# EAGLE library part ENC624J600-I/PT (library ELL-i-DigitalIC)
Stand-Alone 10/100 Ethernet Controller
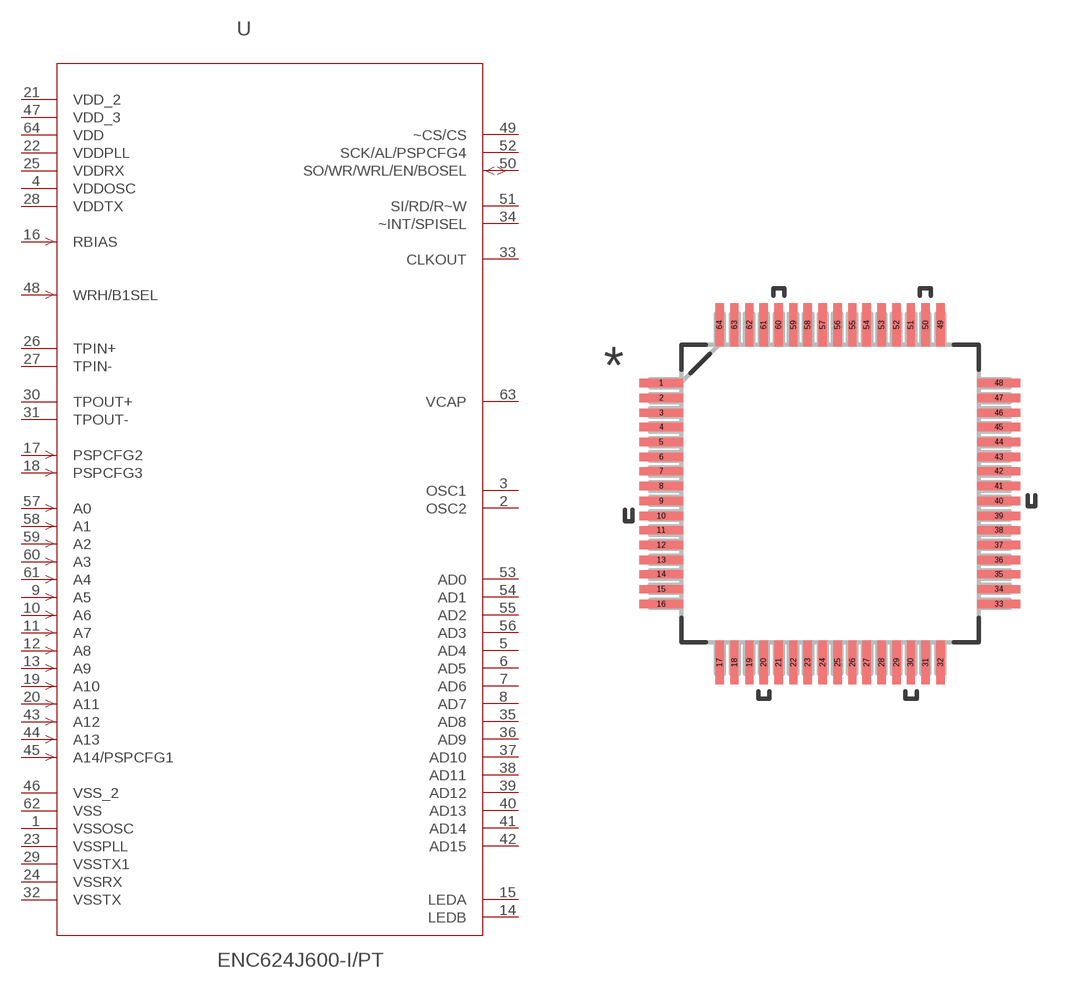
[diagram p9: symbol with the pads of QFP50P1200X1200X120-64N; footprint QFP50P1200X1200X120-64N]

Designator prefix U

## ENC624J600-I/PT (DESCRIPTION: Stand-Alone 10/100 Ethernet Controller; MPN: enc624j600-I/pt; OC_FARNELL: 1740227; OC_NEWARK: 07P9123; PACKAGE: TQFP-64; SUPPLIER: Microchip)  [QFP50P1200X1200X120-64N]
1  VSSOSC  pwr
2  OSC2  out
3  OSC1  in
4  VDDOSC  pwr
5  AD4
6  AD5
7  AD6
8  AD7
9  A5  in
10  A6  in
11  A7  in
12  A8  in
13  A9  in
14  LEDB  out
15  LEDA  out
16  RBIAS  in
17  PSPCFG2  in
18  PSPCFG3  in
19  A10  in
20  A11  in
21  VDD_2  pwr
22  VDDPLL  pwr
23  VSSPLL  pwr
24  VSSRX  pwr
25  VDDRX  pwr
26  TPIN+  in
27  TPIN-  in
28  VDDTX  pwr
29  VSSTX1  pwr
30  TPOUT+  out
31  TPOUT-  out
32  VSSTX  pwr
33  CLKOUT  out
34  ~INT/SPISEL
35  AD8
36  AD9
37  AD10
38  AD11
39  AD12
40  AD13
41  AD14
42  AD15
43  A12  in
44  A13  in
45  A14/PSPCFG1  in
46  VSS_2  pwr
47  VDD_3  pwr
48  WRH/B1SEL  in
49  ~CS/CS  in
50  SO/WR/WRL/EN/BOSEL
51  SI/RD/R~W  in
52  SCK/AL/PSPCFG4  in
53  AD0
54  AD1
55  AD2
56  AD3
57  A0  in
58  A1  in
59  A2  in
60  A3  in
61  A4  in
62  VSS  pwr
63  VCAP  pwr
64  VDD  pwr

## Footprint QFP50P1200X1200X120-64N (pad centres in mm)
smd 1.473 x 0.279: 1 -5.74,3.759; 2 -5.74,3.251; 3 -5.74,2.743; 4 -5.74,2.261; 5 -5.74,1.753; 6 -5.74,1.245; 7 -5.74,0.762; 8 -5.74,0.254; 9 -5.74,-0.254; 10 -5.74,-0.762; 11 -5.74,-1.245; 12 -5.74,-1.753; 13 -5.74,-2.261; 14 -5.74,-2.743; 15 -5.74,-3.251; 16 -5.74,-3.759; 33 5.74,-3.759; 34 5.74,-3.251; 35 5.74,-2.743; 36 5.74,-2.261; 37 5.74,-1.753; 38 5.74,-1.245; 39 5.74,-0.762; 40 5.74,-0.254; 41 5.74,0.254; 42 5.74,0.762; 43 5.74,1.245; 44 5.74,1.753; 45 5.74,2.261; 46 5.74,2.743; 47 5.74,3.251; 48 5.74,3.759
smd 0.279 x 1.473: 17 -3.759,-5.74; 18 -3.251,-5.74; 19 -2.743,-5.74; 20 -2.261,-5.74; 21 -1.753,-5.74; 22 -1.245,-5.74; 23 -0.762,-5.74; 24 -0.254,-5.74; 25 0.254,-5.74; 26 0.762,-5.74; 27 1.245,-5.74; 28 1.753,-5.74; 29 2.261,-5.74; 30 2.743,-5.74; 31 3.251,-5.74; 32 3.759,-5.74; 49 3.759,5.74; 50 3.251,5.74; 51 2.743,5.74; 52 2.261,5.74; 53 1.753,5.74; 54 1.245,5.74; 55 0.762,5.74; 56 0.254,5.74; 57 -0.254,5.74; 58 -0.762,5.74; 59 -1.245,5.74; 60 -1.753,5.74; 61 -2.261,5.74; 62 -2.743,5.74; 63 -3.251,5.74; 64 -3.759,5.74